# EAGLE library part TSZ124 (library (user-cadsoft)-st-microelectronics-tsz12x)
The library has been designed by Richard Magdycz <https://www.facebook.com/groups/eaglecadsoftUK>
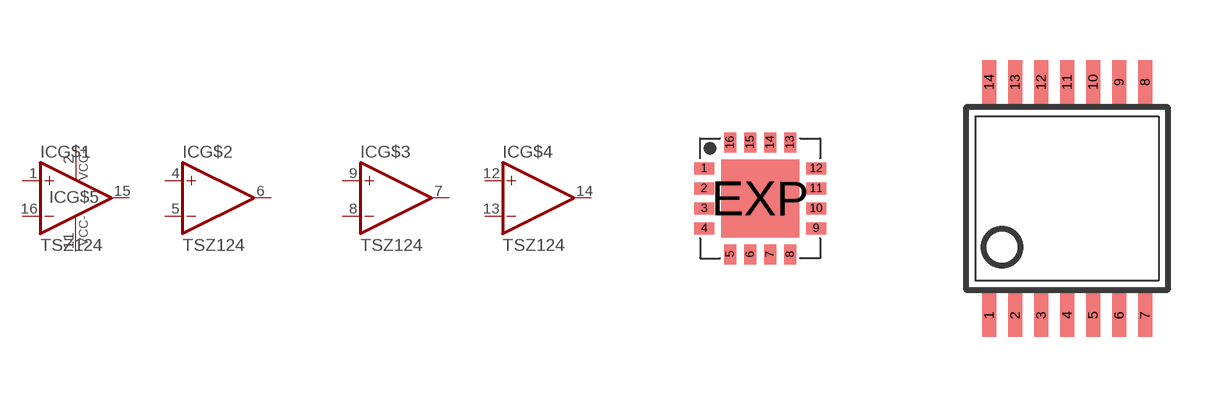
[diagram p1: symbol with the pads of QFN16; footprints QFN16, TSSOP14]

Designator prefix IC; gates G$1=A G$2=A G$3=A G$4=A G$5=PWR

## TSZ124IQ4T  [QFN16]
1  G$1:IN+  in
2  G$5:VCC+  pwr
4  G$2:IN+  in
5  G$2:IN-  in
6  G$2:OUT  out
7  G$3:OUT  out
8  G$3:IN-  in
9  G$3:IN+  in
11  G$5:VCC-  pwr
12  G$4:IN+  in
13  G$4:IN-  in
14  G$4:OUT  out
15  G$1:OUT  out
16  G$1:IN-  in

## TSZ124IYPT  [TSSOP14]
1  G$1:OUT  out
2  G$1:IN-  in
3  G$1:IN+  in
4  G$5:VCC+  pwr
5  G$2:IN+  in
6  G$2:IN-  in
7  G$2:OUT  out
8  G$3:OUT  out
9  G$3:IN-  in
10  G$3:IN+  in
11  G$5:VCC-  pwr
12  G$4:IN+  in
13  G$4:IN-  in
14  G$4:OUT  out

## Footprint QFN16 (pad centres in mm)
QFN 16 3x3 mm Source: www.hittite.com .. hmc492lp3.pdf
smd 0.5 x 0.3: 1 -1.4,0.75; 2 -1.4,0.25; 3 -1.4,-0.25; 4 -1.4,-0.75; 9 1.4,-0.75; 10 1.4,-0.25; 11 1.4,0.25; 12 1.4,0.75
smd 0.3 x 0.5: 5 -0.75,-1.4; 6 -0.25,-1.4; 7 0.25,-1.4; 8 0.75,-1.4; 13 0.75,1.4; 14 0.25,1.4; 15 -0.25,1.4; 16 -0.75,1.4
smd 1.95 x 1.95: EXP 0,0

## Footprint TSSOP14 (pad centres in mm)
Thin Shrink Small Outline Plastic 14 MAX3223-MAX3243.pdf
smd 0.35 x 1.1: 1 -1.95,-2.918; 2 -1.3,-2.918; 3 -0.65,-2.918; 4 0,-2.918; 5 0.65,-2.918; 6 1.3,-2.918; 7 1.95,-2.918; 8 1.95,2.918; 9 1.3,2.918; 10 0.65,2.918; 11 0,2.918; 12 -0.65,2.918; 13 -1.3,2.918; 14 -1.95,2.918